# Altium footprint library LAB1_2.PcbLib: 5 footprints
Each footprint in its own frame and in the unit in brackets; x right, y up, seen from the top. Pads: shape width x height; smd on the part's side, far side on the other; paste and mask are expansions set on the pad; w line width, h text height; cw(c..) or ccw(c..) is an arc to the next point about the centre after c.
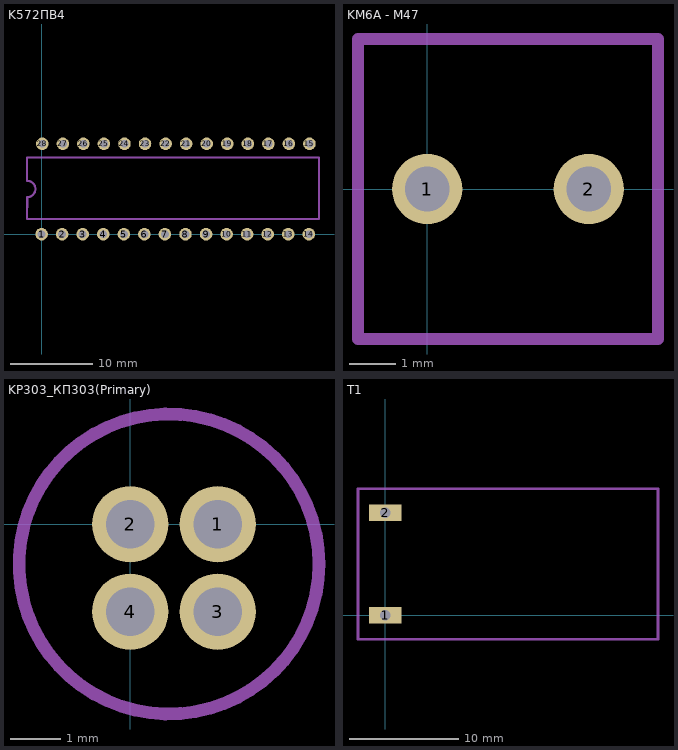
[diagram p0: the footprints below, top view; thin cyan lines are the x and y axes]

## K572ПВ4 [mil]
pads (28):
  round 60 hole 38: 1(0,0) 2(98.43,0) 3(196.85,0) 4(295.28,0) 5(393.7,0) 6(492.13,0) 7(590.55,0) 8(688.98,0) 9(787.4,0) 10(885.83,0) 11(984.25,0) 12(1082.68,0) 13(1181.1,0) 14(1279.53,0) 15(1282.68,433.07) 16(1184.25,433.07) 17(1085.83,433.07) 18(987.4,433.07) 19(888.98,433.07) 20(790.55,433.07) 21(692.13,433.07) 22(593.7,433.07) 23(495.28,433.07) 24(396.85,433.07) 25(298.43,433.07) 26(200,433.07) 27(101.57,433.07) 28(3.15,433.07)
Mechanical 1:
  lines w10: -69.29,259.06 -69.29,367.32 1328.35,367.32 1328.35,72.05 -69.29,72.05 -68.9,177.17 ccw(c-68.9,216.54) -69.17,255.9

## KM6A - M47 [mil]
pads (2):
  round 60 hole 38: 1(0,0) 2(137.8,0)
Mechanical 1:
  lines w10: -59.06,-127.95 196.85,-127.95 196.85,127.95 -59.06,127.95 -59.06,-127.95

## KP303_КП303(Primary) [mil]
pads (4):
  round 60 hole 38: 1(68.9,0) 2(0,0) 3(68.9,-68.9) 4(0,-68.9)
Mechanical 1:
  circle w10: c30.52,-31.36 r118.11

## PCBComponent_1 [mil]

## T1 [mil]
pads (2):
  rect 118.11x60 hole 38: 1(0,0) 2(0,370.08)
Mechanical 1:
  lines w10: -98.43,-86.61 984.25,-86.61 984.25,456.69 -98.43,456.69 -98.43,-86.61